# Altium footprint library Crystal.PcbLib: 1 footprints
Each footprint in its own frame and in the unit in brackets; x right, y up, seen from the top. Pads: shape width x height; smd on the part's side, far side on the other; paste and mask are expansions set on the pad; w line width, h text height; cw(c..) or ccw(c..) is an arc to the next point about the centre after c.
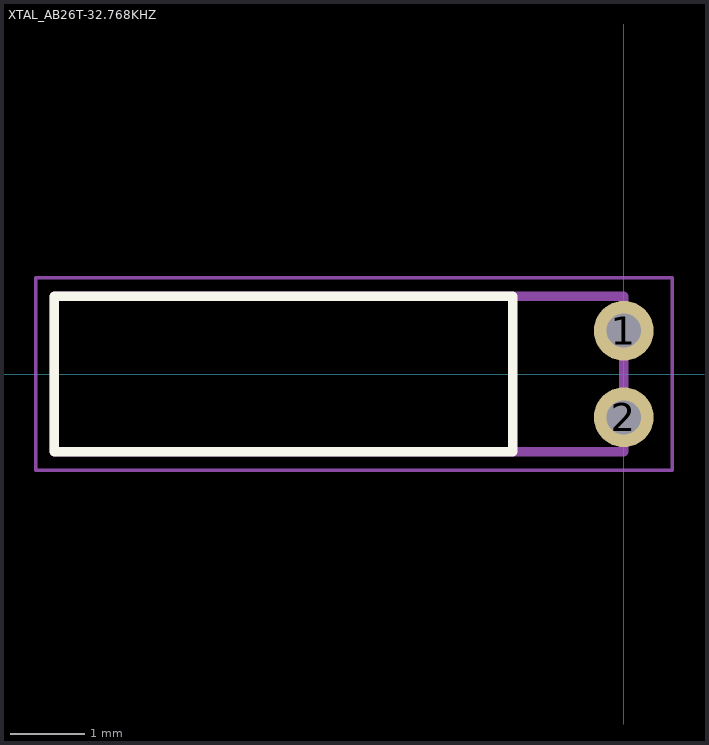
[diagram p0: the footprint, top view; thin cyan lines are the x and y axes]

## XTAL_AB26T-32.768KHZ [mm]
height 2.1
pads (2):
  round 0.81 hole 0.46 mask+0.102: 1(0,0.585) 2(0,-0.585)
Top Overlay:
  lines w0.127: -7.7,-1.05 -7.7,1.05 -1.5,1.05 -1.5,-1.05 -7.7,-1.05
Assembly Top:
  lines w0.127: -7.7,-1.05 -7.7,1.05 0,1.05 0,-1.05 -7.7,-1.05
Courtyard Top:
  lines w0.05: -7.95,-1.3 -7.95,1.3 0.655,1.3 0.655,-1.3 -7.95,-1.3
3D body "step_temp.STEP": height 2.1, standoff -3.78, extent -7.7,-1.05 0.129,1.05